# EAGLE library part DIN41612-B64-MALE (library Traficon)
Manufacturer: Pancon Product number: 100-064-033
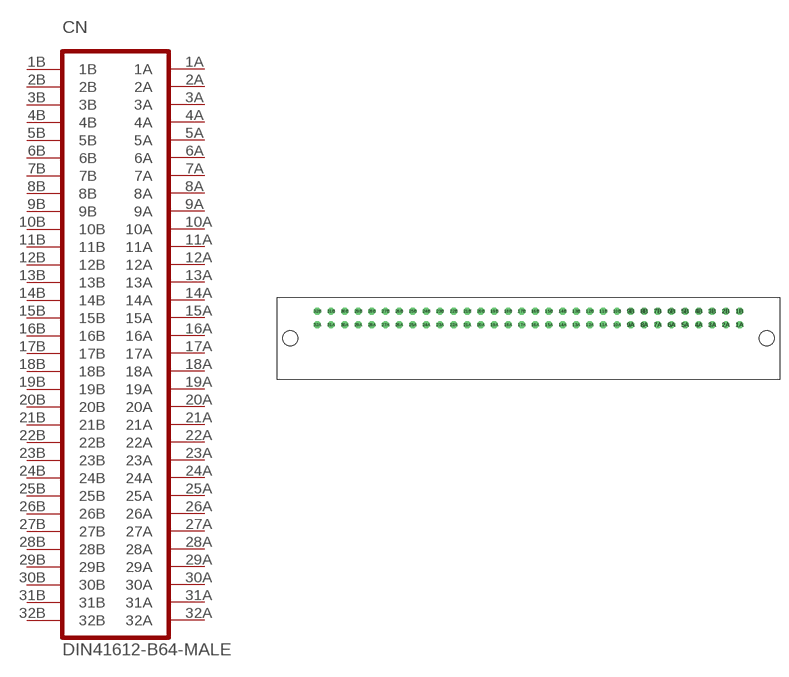
[diagram p83: symbol with the pads of DIN41612-B64-MALE; footprint DIN41612-B64-MALE]

Designator prefix CN

## DIN41612-B64-MALE  [DIN41612-B64-MALE]
1A  1A
1B  1B
2A  2A
2B  2B
3A  3A
3B  3B
4A  4A
4B  4B
5A  5A
5B  5B
6A  6A
6B  6B
7A  7A
7B  7B
8A  8A
8B  8B
9A  9A
9B  9B
10A  10A
10B  10B
11A  11A
11B  11B
12A  12A
12B  12B
13A  13A
13B  13B
14A  14A
14B  14B
15A  15A
15B  15B
16A  16A
16B  16B
17A  17A
17B  17B
18A  18A
18B  18B
19A  19A
19B  19B
20A  20A
20B  20B
21A  21A
21B  21B
22A  22A
22B  22B
23A  23A
23B  23B
24A  24A
24B  24B
25A  25A
25B  25B
26A  26A
26B  26B
27A  27A
27B  27B
28A  28A
28B  28B
29A  29A
29B  29B
30A  30A
30B  30B
31A  31A
31B  31B
32A  32A
32B  32B

## Footprint DIN41612-B64-MALE (pad centres in mm)
drill 0.8 octagon: 1A 58.42,2.54; 1B 58.42,5.08; 2A 55.88,2.54; 2B 55.88,5.08; 3A 53.34,2.54; 3B 53.34,5.08; 4A 50.8,2.54; 4B 50.8,5.08; 5A 48.26,2.54; 5B 48.26,5.08; 6A 45.72,2.54; 6B 45.72,5.08; 7A 43.18,2.54; 7B 43.18,5.08; 8A 40.64,2.54; 8B 40.64,5.08; 9A 38.1,2.54; 9B 38.1,5.08; 10A 35.56,2.54; 10B 35.56,5.08; 11A 33.02,2.54; 11B 33.02,5.08; 12A 30.48,2.54; 12B 30.48,5.08; 13A 27.94,2.54; 13B 27.94,5.08; 14A 25.4,2.54; 14B 25.4,5.08; 15A 22.86,2.54; 15B 22.86,5.08; 16A 20.32,2.54; 16B 20.32,5.08; 17A 17.78,2.54; 17B 17.78,5.08; 18A 15.24,2.54; 18B 15.24,5.08; 19A 12.7,2.54; 19B 12.7,5.08; 20A 10.16,2.54; 20B 10.16,5.08; 21A 7.62,2.54; 21B 7.62,5.08; 22A 5.08,2.54; 22B 5.08,5.08; 23A 2.54,2.54; 23B 2.54,5.08; 24A 0,2.54; 24B 0,5.08; 25A -2.54,2.54; 25B -2.54,5.08; 26A -5.08,2.54; 26B -5.08,5.08; 27A -7.62,2.54; 27B -7.62,5.08; 28A -10.16,2.54; 28B -10.16,5.08; 29A -12.7,2.54; 29B -12.7,5.08; 30A -15.24,2.54; 30B -15.24,5.08; 31A -17.78,2.54; 31B -17.78,5.08; 32A -20.32,2.54; 32B -20.32,5.08
hole 2.8 at -25.4,0
hole 2.8 at 63.5,0